# EAGLE library part MCP2515 (library glados)
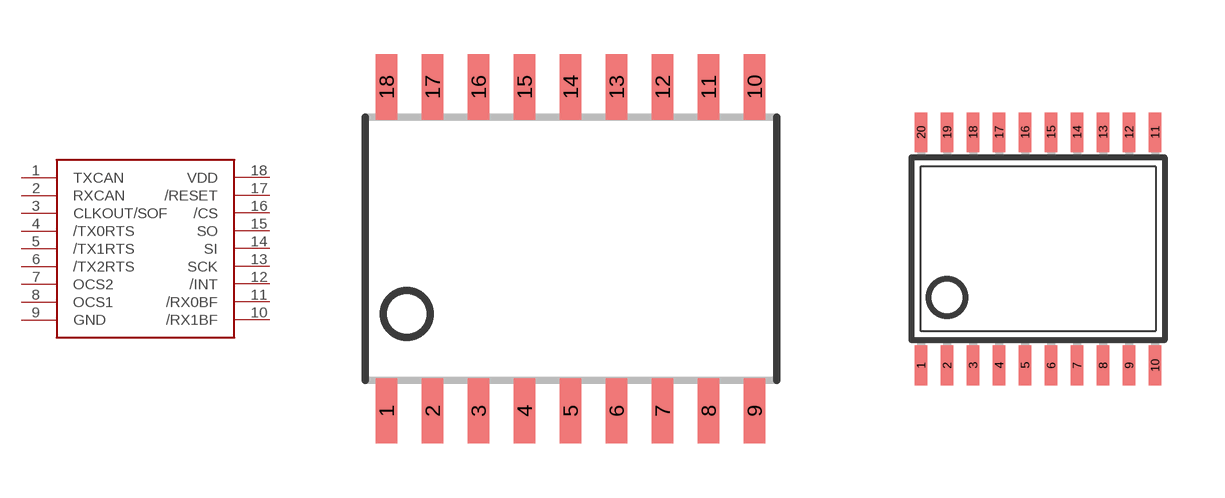
[diagram p1: symbol with the pads of SOIC18L; footprints SOIC18L, TSSOP20]

Designator prefix -

## MCP251518-LEAD_SOIC  [SOIC18L]
1  TXCAN
2  RXCAN
3  CLKOUT/SOF
4  /TX0RTS
5  /TX1RTS
6  /TX2RTS
7  OCS2
8  OCS1
9  GND
10  /RX1BF
11  /RX0BF
12  /INT
13  SCK
14  SI
15  SO
16  /CS
17  /RESET
18  VDD

## MCP251520-LEAD_TSSOP  [TSSOP20]
1  TXCAN
2  RXCAN
3  CLKOUT/SOF
4  /TX0RTS
5  /TX1RTS
7  /TX2RTS
8  OCS2
9  OCS1
10  GND
11  /RX1BF
12  /RX0BF
13  /INT
14  SCK
16  SI
17  SO
18  /CS
19  /RESET
20  VDD

## Footprint SOIC18L (pad centres in mm)
SMALL OUTLINE PACKAGE 11.55 x 10.3 Source: http://www.lsicsi.com/pdfs/Drawings/SOIC%20Outline%20Dwgs.pdf
smd 0.6 x 1.8: 1 -5.08,-4.475; 2 -3.81,-4.475; 3 -2.54,-4.475; 4 -1.27,-4.475; 5 0,-4.475; 6 1.27,-4.475; 7 2.54,-4.475; 8 3.81,-4.475; 9 5.08,-4.475; 10 5.08,4.475; 11 3.81,4.475; 12 2.54,4.475; 13 1.27,4.475; 14 0,4.475; 15 -1.27,4.475; 16 -2.54,4.475; 17 -3.81,4.475; 18 -5.08,4.475

## Footprint TSSOP20 (pad centres in mm)
Thin Shrink Small Outline Plastic 20 MAX3223-MAX3243.pdf
smd 0.305 x 0.991: 1 -2.925,-2.918; 2 -2.275,-2.918; 3 -1.625,-2.918; 4 -0.975,-2.918; 5 -0.325,-2.918; 6 0.325,-2.918; 7 0.975,-2.918; 8 1.625,-2.918; 9 2.275,-2.918; 10 2.925,-2.918; 11 2.925,2.918; 12 2.275,2.918; 13 1.625,2.918; 14 0.975,2.918; 15 0.325,2.918; 16 -0.325,2.918; 17 -0.975,2.918; 18 -1.625,2.918; 19 -2.275,2.918; 20 -2.925,2.918